# Altium footprint library 691 701 340 0xx B.PcbLib: 11 footprints
Each footprint in its own frame and in the unit in brackets; x right, y up, seen from the top. Pads: shape width x height; smd on the part's side, far side on the other; paste and mask are expansions set on the pad; w line width, h text height; cw(c..) or ccw(c..) is an arc to the next point about the centre after c.
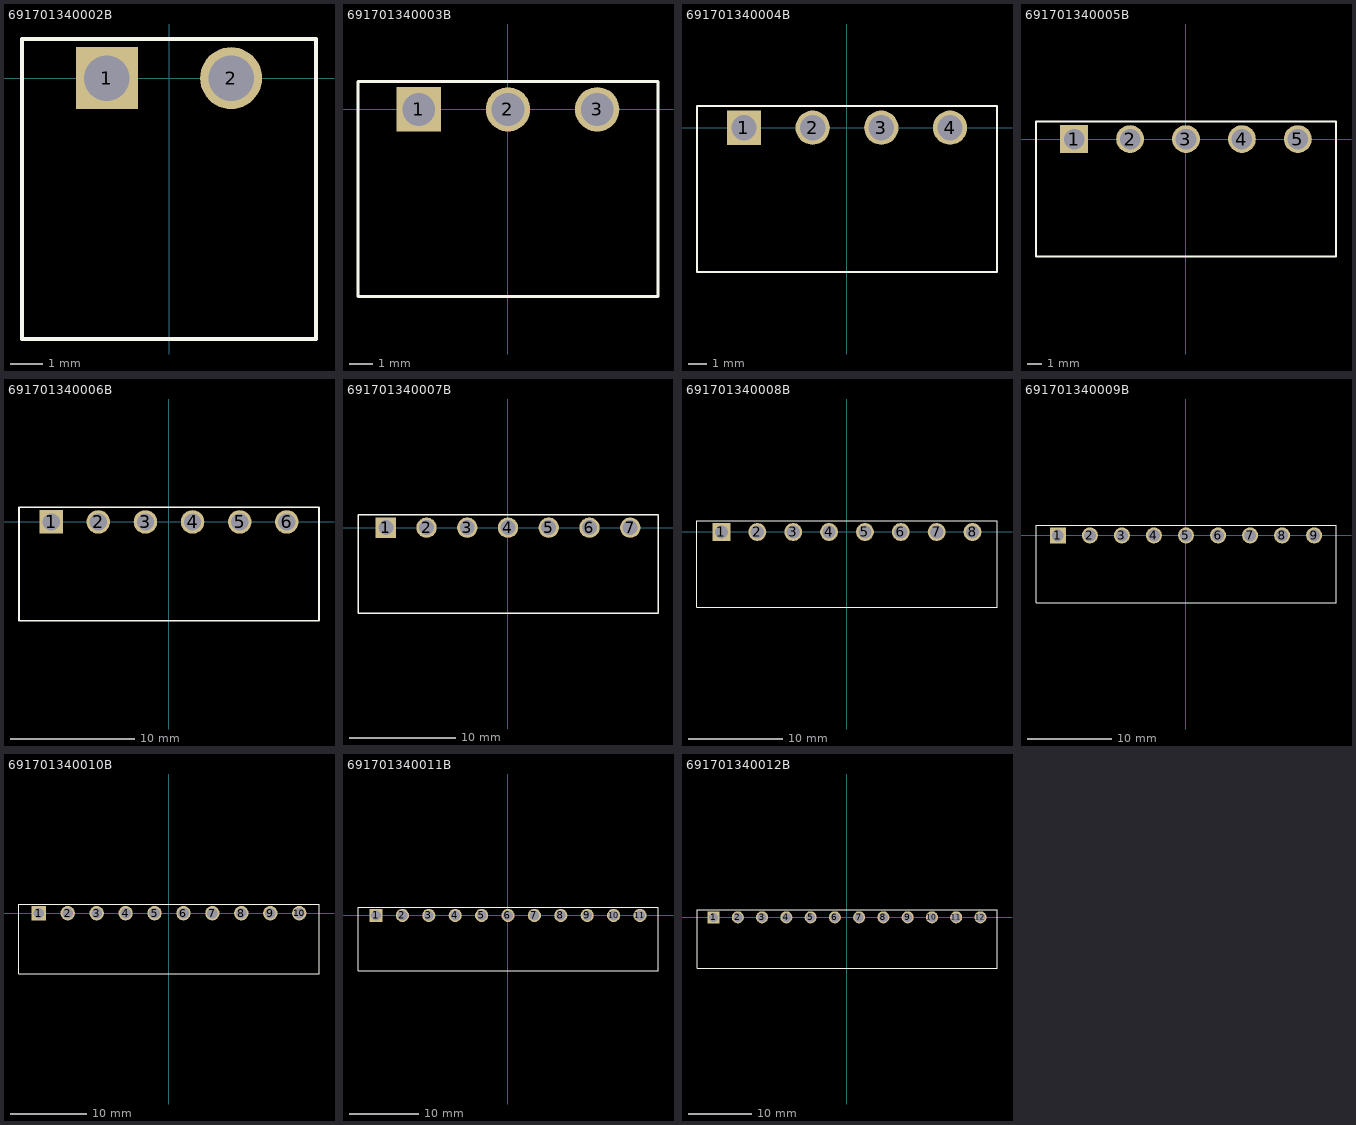
[diagram p0: the footprints below, top view; thin cyan lines are the x and y axes]

## 691701340002B [mm] "THR - 3,81mm - PCB Horizontal Close - 02p"
height 7
pads (2):
  rect 1.9x1.9 hole 1.4: 1(-1.905,0)
  round 1.9 hole 1.4: 2(1.905,0)
Top Overlay:
  lines w0.127: -4.505,-8 4.505,-8 4.505,1.2 -4.505,1.2 -4.505,-8
3D body: height 7.31, standoff -2.59, extent -4.505,-8 4.505,1.2

## 691701340003B [mm] "THR - 3,81mm - PCB Horizontal Close - 03p"
height 7
pads (3):
  rect 1.9x1.9 hole 1.4: 1(-3.81,0)
  round 1.9 hole 1.4: 2(0,0) 3(3.81,0)
Top Overlay:
  lines w0.127: -6.41,-8 6.41,-8 6.41,1.2 -6.41,1.2 -6.41,-8
3D body: height 7.31, standoff -2.59, extent -6.41,-8 6.41,1.2

## 691701340004B [mm] "THR - 3,81mm - PCB Horizontal Close - 04p"
height 7
pads (4):
  rect 1.9x1.9 hole 1.4: 1(-5.715,0)
  round 1.9 hole 1.4: 2(-1.905,0) 3(1.905,0) 4(5.715,0)
Top Overlay:
  lines w0.127: -8.315,-8 -8.315,1.2 8.315,1.2 8.315,-8 -8.315,-8
3D body: height 7.31, standoff -2.59, extent -8.315,-8 8.315,1.2

## 691701340005B [mm] "THR - 3,81mm - PCB Horizontal Close - 05p"
height 7
pads (5):
  rect 1.9x1.9 hole 1.4: 1(-7.62,0)
  round 1.9 hole 1.4: 2(-3.81,0) 3(0,0) 4(3.81,0) 5(7.62,0)
Top Overlay:
  lines w0.127: -10.22,-8 -10.22,1.2 10.22,1.2 10.22,-8 -10.22,-8
3D body: height 7.31, standoff -2.59, extent -10.22,-8 10.22,1.2

## 691701340006B [mm] "THR - 3,81mm - PCB Horizontal Close - 06p"
height 7
pads (6):
  rect 1.9x1.9 hole 1.4: 1(-9.525,0)
  round 1.9 hole 1.4: 2(-5.715,0) 3(-1.905,0) 4(1.905,0) 5(5.715,0) 6(9.525,0)
Top Overlay:
  lines w0.127: -12.125,-8 12.125,-8 12.125,1.2 -12.125,1.2 -12.125,-8
3D body: height 7.31, standoff -2.59, extent -12.125,-8 12.125,1.2

## 691701340007B [mm] "THR - 3,81mm - PCB Horizontal Close - 07p"
height 7
pads (7):
  rect 1.9x1.9 hole 1.4: 1(-11.43,0)
  round 1.9 hole 1.4: 2(-7.62,0) 3(-3.81,0) 4(0,0) 5(3.81,0) 6(7.62,0) 7(11.43,0)
Top Overlay:
  lines w0.127: -14.03,-8 14.03,-8 14.03,1.2 -14.03,1.2 -14.03,-8
3D body: height 7.31, standoff -2.59, extent -14.03,-8 14.03,1.2

## 691701340008B [mm] "THR - 3,81mm - PCB Horizontal Close - 08p"
height 7
pads (8):
  rect 1.9x1.9 hole 1.4: 1(-13.335,0)
  round 1.9 hole 1.4: 2(-9.525,0) 3(-5.715,0) 4(-1.905,0) 5(1.905,0) 6(5.715,0) 7(9.525,0) 8(13.335,0)
Top Overlay:
  lines w0.127: -15.935,-8 15.935,-8 15.935,1.2 -15.935,1.2 -15.935,-8
3D body: height 7.31, standoff -2.59, extent -15.935,-8 15.935,1.2

## 691701340009B [mm] "THR - 3,81mm - PCB Horizontal Close - 09p"
height 7
pads (9):
  rect 1.9x1.9 hole 1.4: 1(-15.24,0)
  round 1.9 hole 1.4: 2(-11.43,0) 3(-7.62,0) 4(-3.81,0) 5(0,0) 6(3.81,0) 7(7.62,0) 8(11.43,0) 9(15.24,0)
Top Overlay:
  lines w0.127: -17.84,-8 -17.84,1.2 17.84,1.2 17.84,-8 -17.84,-8
3D body: height 7.31, standoff -2.59, extent -17.84,-8 17.84,1.2

## 691701340010B [mm] "THR - 3,81mm - PCB Horizontal Close - 10p"
height 7
pads (10):
  rect 1.9x1.9 hole 1.4: 1(-17.145,0)
  round 1.9 hole 1.4: 2(-13.335,0) 3(-9.525,0) 4(-5.715,0) 5(-1.905,0) 6(1.905,0) 7(5.715,0) 8(9.525,0) 9(13.335,0) 10(17.145,0)
Top Overlay:
  lines w0.127: -19.745,-8 -19.745,1.2 19.745,1.2 19.745,-8 -19.745,-8
3D body: height 7.31, standoff -2.59, extent -19.745,-8 19.745,1.2

## 691701340011B [mm] "THR - 3,81mm - PCB Horizontal Close - 11p"
height 7
pads (11):
  rect 1.9x1.9 hole 1.4: 1(-19.05,0)
  round 1.9 hole 1.4: 2(-15.24,0) 3(-11.43,0) 4(-7.62,0) 5(-3.81,0) 6(0,0) 7(3.81,0) 8(7.62,0) 9(11.43,0) 10(15.24,0) 11(19.05,0)
Top Overlay:
  lines w0.127: -21.65,-8 -21.65,1.2 21.65,1.2 21.65,-8 -21.65,-8
3D body: height 7.31, standoff -2.59, extent -21.65,-8 21.65,1.2

## 691701340012B [mm] "THR - 3,81mm - PCB Horizontal Close - 12p"
height 7
pads (12):
  rect 1.9x1.9 hole 1.4: 1(-20.955,0)
  round 1.9 hole 1.4: 2(-17.145,0) 3(-13.335,0) 4(-9.525,0) 5(-5.715,0) 6(-1.905,0) 7(1.905,0) 8(5.715,0) 9(9.525,0) 10(13.335,0) 11(17.145,0) 12(20.955,0)
Top Overlay:
  lines w0.127: -23.555,-8 23.555,-8 23.555,1.2 -23.555,1.2 -23.555,-8
3D body: height 7.31, standoff -2.59, extent -23.555,-8 23.555,1.2